# EAGLE library part WIRE2BOARD_1X16 (library dsantoro-conn)
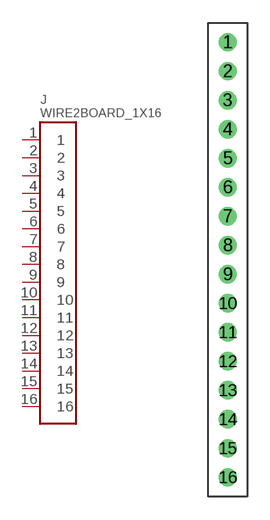
[diagram p4: symbol with the pads of WIRE2BOARD_1X16; footprint WIRE2BOARD_1X16]

Designator prefix J

## WIRE2BOARD_1X16  [WIRE2BOARD_1X16]
1  1
2  2
3  3
4  4
5  5
6  6
7  7
8  8
9  9
10  10
11  11
12  12
13  13
14  14
15  15
16  16

## Footprint WIRE2BOARD_1X16 (pad centres in mm)
drill 0.7: 1 0,0; 2 0,-1.905; 3 0,-3.81; 4 0,-5.715; 5 0,-7.62; 6 0,-9.525; 7 0,-11.43; 8 0,-13.335; 9 0,-15.24; 10 0,-17.145; 11 0,-19.05; 12 0,-20.955; 13 0,-22.86; 14 0,-24.765; 15 0,-26.67; 16 0,-28.575